# Altium schematic symbol library SCH - POWER - LINEAR VREG - ST LM317LZ-AP.SCHLIB: 1 symbol
Pins are listed as number, name and electrical type; pins without a type are passive.

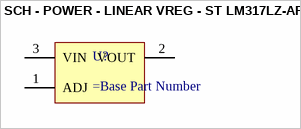
[diagram p0: symbol SCH - POWER - LINEAR VREG - ST LM317LZ-AP]

## SCH - POWER - LINEAR VREG - ST LM317LZ-AP
designator U?
pins: 1 ADJ, 2 VOUT, 3 VIN